# Altium footprint library PcbLib2.PcbLib: 5 footprints
Each footprint in its own frame and in the unit in brackets; x right, y up, seen from the top. Pads: shape width x height; smd on the part's side, far side on the other; paste and mask are expansions set on the pad; w line width, h text height; cw(c..) or ccw(c..) is an arc to the next point about the centre after c.
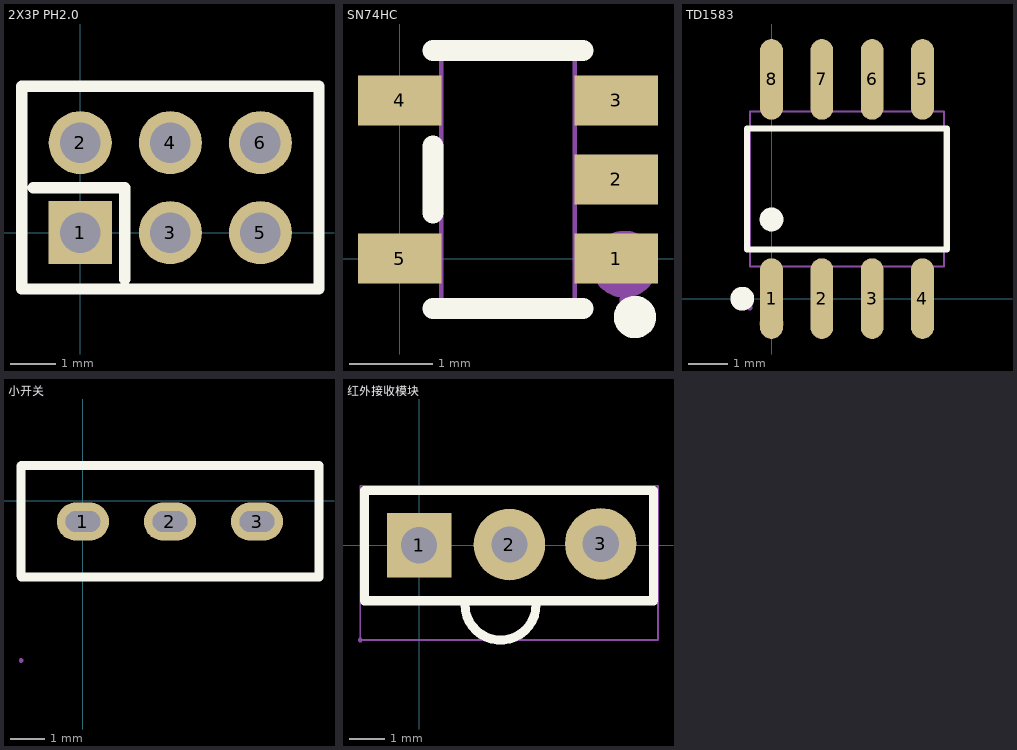
[diagram p0: the footprints below, top view; thin cyan lines are the x and y axes]

## 2X3P PH2.0 [mm]
pads (6):
  rect 1.4x1.4 hole 0.9 mask+0.051: 1(0,0)
  round 1.4 hole 0.9 mask+0.051: 2(0,2) 3(2,0) 4(2,2) 5(4,0) 6(4,2)
Top Overlay:
  lines w0.254: -1.048,1 0.984,1 0.984,-1.032 ; -1.3,-1.25 5.3,-1.25 5.3,3.25 -1.3,3.25 -1.3,-1.25
Mechanical 15:
  region: -1.24,-1.25 -1.24,-1.225 -1.275,-1.19 -1.325,-1.19 -1.36,-1.225 -1.36,-1.25 -1.36,-1.275 -1.325,-1.31 -1.275,-1.31 -1.24,-1.275 -1.24,-1.25
  region: 3.75,2.1 4.25,2.1 4.25,1.9 3.75,1.9
  region: 3.75,0.1 4.25,0.1 4.25,-0.1 3.75,-0.1
  region: 1.75,0.1 2.25,0.1 2.25,-0.1 1.75,-0.1
  region: 1.75,2.1 2.25,2.1 2.25,1.9 1.75,1.9
  region: -0.25,2.1 0.25,2.1 0.25,1.9 -0.25,1.9
  region: -0.25,0.1 0.25,0.1 0.25,-0.1 -0.25,-0.1
  lines w0.051: -1.3,-1.25 5.3,-1.25 5.3,3.25 -1.3,3.25 -1.3,-1.25

## SN74HC [mm]
pads (5):
  rect 1x0.6 smd mask+0.051: 1(2.6,0) 2(2.6,0.95) 3(2.6,1.9) 4(0,1.9) 5(0,0)
Top Overlay:
  circle w0.254: c2.824,-0.701 r0.127
  lines w0.254: 0.4,-0.6 2.2,-0.6 ; 0.4,0.55 0.4,1.35 ; 0.4,2.5 2.2,2.5
Mechanical 6:
  circle w0.4: c2.697,-0.066 r0.2
Mechanical 15:
  region: 2.76,-0.5 2.76,-0.475 2.725,-0.44 2.675,-0.44 2.64,-0.475 2.64,-0.5 2.64,-0.525 2.675,-0.56 2.725,-0.56 2.76,-0.525 2.76,-0.5
  region: 2.09,-0.2 2.09,0.2 2.26,0.2 2.26,-0.2
  region: 2.25,-0.2 2.25,0.2 2.7,0.2 2.7,-0.2
  region: 2.09,0.75 2.09,1.15 2.26,1.15 2.26,0.75
  region: 2.25,0.75 2.25,1.15 2.7,1.15 2.7,0.75
  region: 2.09,1.7 2.09,2.1 2.26,2.1 2.26,1.7
  region: 2.25,1.7 2.25,2.1 2.7,2.1 2.7,1.7
  region: 0.34,1.7 0.34,2.1 0.51,2.1 0.51,1.7
  region: -0.1,1.7 -0.1,2.1 0.35,2.1 0.35,1.7
  region: 0.34,-0.2 0.34,0.2 0.51,0.2 0.51,-0.2
  region: -0.1,-0.2 -0.1,0.2 0.35,0.2 0.35,-0.2
  lines w0.051: 0.5,-0.5 2.1,-0.5 2.1,2.4 0.5,2.4 0.5,-0.5

## TD1583 [mm]
pads (8):
  oval 0.574x2.036 smd mask+0.051: 1(0,0) 2(1.27,0) 3(2.54,0) 4(3.81,0) 5(3.81,5.536) 6(2.54,5.536) 7(1.27,5.536) 8(0,5.536)
Top Overlay:
  circle w0.3: c-0.739,0 r0.15
  circle w0.3: c0,1.999 r0.15
  lines w0.152: -0.621,1.246 4.431,1.246 4.431,4.289 -0.621,4.289 -0.621,1.246
Mechanical 6:
  circle w0.3: c0,-0.63 r0.15
Mechanical 15:
  region: 3.605,4.94 3.605,4.708 4.015,4.708 4.015,4.94
  region: 3.605,5.765 3.605,4.93 4.015,4.93 4.015,5.765
  region: 2.335,4.94 2.335,4.708 2.745,4.708 2.745,4.94
  region: 2.335,5.765 2.335,4.93 2.745,4.93 2.745,5.765
  region: 1.065,4.94 1.065,4.708 1.475,4.708 1.475,4.94
  region: 1.065,5.765 1.065,4.93 1.475,4.93 1.475,5.765
  region: -0.205,4.94 -0.205,4.708 0.205,4.708 0.205,4.94
  region: -0.205,5.765 -0.205,4.93 0.205,4.93 0.205,5.765
  region: 3.605,0.595 3.605,0.828 4.015,0.828 4.015,0.595
  region: 3.605,-0.23 3.605,0.605 4.015,0.605 4.015,-0.23
  region: 2.335,0.595 2.335,0.828 2.745,0.828 2.745,0.595
  region: 2.335,-0.23 2.335,0.605 2.745,0.605 2.745,-0.23
  region: 1.065,0.595 1.065,0.828 1.475,0.828 1.475,0.595
  region: 1.065,-0.23 1.065,0.605 1.475,0.605 1.475,-0.23
  region: -0.205,0.595 -0.205,0.828 0.205,0.828 0.205,0.595
  region: -0.205,-0.23 -0.205,0.605 0.205,0.605 0.205,-0.23
  region: -0.485,-0.23 -0.485,-0.205 -0.52,-0.17 -0.57,-0.17 -0.605,-0.205 -0.605,-0.23 -0.605,-0.255 -0.57,-0.29 -0.52,-0.29 -0.485,-0.255 -0.485,-0.23
  lines w0.051: -0.545,0.818 4.355,0.818 4.355,4.718 -0.545,4.718 -0.545,0.818

## 小开关 [mm]
pads (3):
  oval 1.5x1.1 hole 0.6 slot 1 at 0 deg mask+0.05: 1(0,-0.6) 2(2.5,-0.6) 3(5,-0.6)
Top Overlay:
  lines w0.254: -1.78,-2.159 -1.78,1 -1.77,1.01 6.78,1.01 6.78,-2.159 ; -1.77,-2.19 6.78,-2.19
Mechanical 15:
  region: -1.715,-4.59 -1.715,-4.565 -1.75,-4.53 -1.8,-4.53 -1.835,-4.565 -1.835,-4.59 -1.835,-4.615 -1.8,-4.65 -1.75,-4.65 -1.715,-4.615 -1.715,-4.59
  region: 0.3,-0.45 0.3,-0.75 -0.3,-0.75 -0.3,-0.45
  region: 2.8,-0.45 2.8,-0.75 2.2,-0.75 2.2,-0.45
  region: 5.3,-0.45 5.3,-0.75 4.7,-0.75 4.7,-0.45
  lines w0.051: 0.461,-2.189 -1.775,-2.189 -1.775,1.01 6.775,1.01 6.775,-2.19 0.469,-2.19

## 红外接收模块 [mil]
pads (3):
  rect 71x71 hole 40 mask+2: 1(0,0)
  round 79 hole 40 mask+2: 2(99.7,0.7) 3(200.6,1.6)
Top Overlay:
  lines w7.9: -60,-60 -60,60 258.8,60.7 258.8,-61.3 -60,-60
  lines w10: 50.5,-65.3 ccw(c89.9,-65.3) 129.3,-65.3 ; -60.1,-61.3 258.8,-61.3 258.8,60.7 -60.1,60.7 -60.1,-61.3
Mechanical 15:
  region: 216.7,1.6 216.7,4.8 214.25,10.72 209.72,15.25 203.8,17.7 197.4,17.7 191.48,15.25 186.95,10.72 184.5,4.8 184.5,1.6 184.5,-1.6 186.95,-7.52 191.48,-12.05 197.4,-14.5 203.8,-14.5 209.72,-12.05 214.25,-7.52 216.7,-1.6 216.7,1.6
  region: 115.8,0.7 115.8,3.9 113.35,9.82 108.82,14.35 102.9,16.8 96.5,16.8 90.58,14.35 86.05,9.82 83.6,3.9 83.6,0.7 83.6,-2.5 86.05,-8.42 90.58,-12.95 96.5,-15.4 102.9,-15.4 108.82,-12.95 113.35,-8.42 115.8,-2.5 115.8,0.7
  region: 16.1,0 16.1,3.2 13.65,9.12 9.12,13.65 3.2,16.1 -3.2,16.1 -9.12,13.65 -13.65,9.12 -16.1,3.2 -16.1,0 -16.1,-3.2 -13.65,-9.12 -9.12,-13.65 -3.2,-16.1 3.2,-16.1 9.12,-13.65 13.65,-9.12 16.1,-3.2 16.1,0
  region: -62.7,-104.7 -62.7,-103.71 -64.11,-102.3 -66.09,-102.3 -67.5,-103.71 -67.5,-104.7 -67.5,-105.69 -66.09,-107.1 -64.11,-107.1 -62.7,-105.69 -62.7,-104.7
  lines w2: -65.1,-104.7 263.8,-104.7 263.8,65.7 -65.1,65.7 -65.1,-104.7